# Altium footprint library Connector RF.PcbLib: 13 footprints
Each footprint in its own frame and in the unit in brackets; x right, y up, seen from the top. Pads: shape width x height; smd on the part's side, far side on the other; paste and mask are expansions set on the pad; w line width, h text height; cw(c..) or ccw(c..) is an arc to the next point about the centre after c.
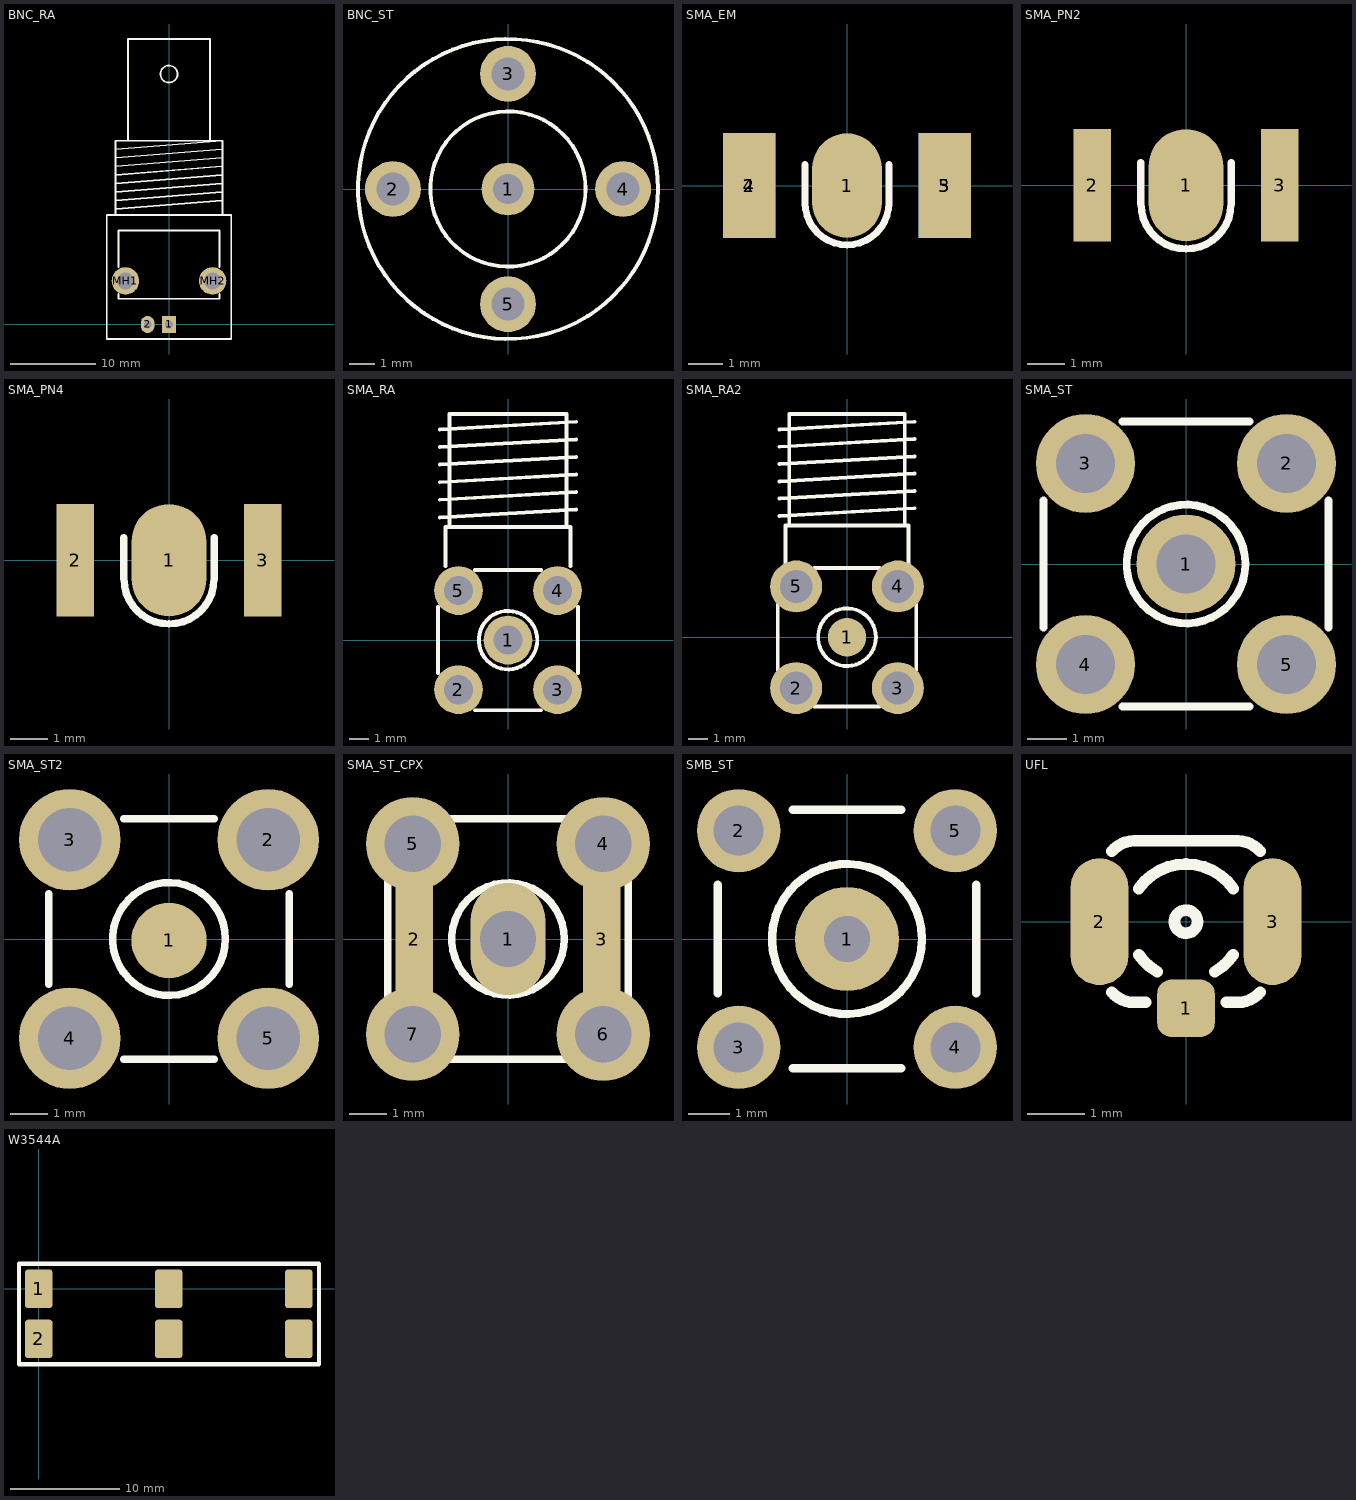
[diagram p0: the footprints below, top view; thin cyan lines are the x and y axes]

## BNC_RA [mm] "BNC connector, right angle PCB-mounted Elbow"
pads (4):
  rect 1.6x2 hole 0.9: 1(0,0)
  oval 1.6x2 hole 0.9: 2(-2.5,0)
  round 3.2 hole 2: MH1(-5.1,5.1) MH2(5.1,5.1)
Top Overlay:
  circle w0.2: c0,29.3 r1
  lines w0.2: -6.25,13.5 6.25,14.5 ; -6.25,14.5 6.25,15.5 ; -6.25,15.5 6.25,16.5 ; -6.25,16.5 6.25,17.5 ; -6.25,17.5 6.25,18.5 ; -6.25,18.5 6.25,19.5 ; -6.25,19.5 6.25,20.5 ; -6.25,20.5 6.25,21.5 ; -5.9,3.6 -5.9,3 5.9,3 5.9,3.6 ; -5.9,6.7 -5.9,11 5.9,11 5.9,6.7 ; -6.25,12.8 -7.3,12.8 -7.3,-1.7 7.3,-1.7 7.3,12.8 6.25,12.8 ; -6.25,12.8 -6.25,21.5 -4.8,21.5 ; -6.25,12.8 6.25,12.8 ; -4.8,21.5 4.8,21.5 ; -4.8,21.5 -4.8,33.4 4.8,33.4 4.8,21.5 ; 4.8,21.5 6.25,21.5 ; 6.25,12.8 6.25,21.5
3D body "User Library-bnc-1.SLDPRT": height 17.13, standoff -2.47, extent -7.2,-1.6 7.2,33.3

## BNC_ST [mil] "BNC Short Connector"
height 543.31
pads (5):
  round 80 hole 45: 1(0,0)
  round 85 hole 50: 2(-175.2,0) 3(0,175.2) 4(175.2,0) 5(0,-175.2)
Top Overlay:
  circle w5.91: c0,0 r228.35
  circle w5.91: c0,0 r118.11
3D body "My BNC Short.STEP": height 538.19, standoff -173.23, extent -218.11,-218.11 218.11,218.11

## SMA_EM [mm] "SMA-J-P-H-ST-EM1 edge mounting"
pads (5):
  oval 2x3 smd: 1(0,0)
  rect 1.5x3 smd: 2(-2.8,0) 3(2.8,0)
  rect 1.5x3 smd far side: 4(-2.8,0) 5(2.8,0)
Top Overlay:
  lines w0.2: -1.2,0.6 -1.2,-0.5 ccw(c0,-0.5) 1.2,-0.5 1.2,0.6
3D body "SMA-J-P-H-ST-EM1.STEP": height 3.51, standoff -2.84, extent -3.175,-1.1 3.175,12.23

## SMA_PN2 [mm] "SMA-J-P-H-ST-PN2, 1pin Wall mounting"
pads (3):
  oval 2x3 smd: 1(0,0)
  rect 1x3 smd: 2(-2.5,0) 3(2.5,0)
Top Overlay:
  lines w0.2: -1.2,0.6 -1.2,-0.5 ccw(c0,-0.5) 1.2,-0.5 1.2,0.6
3D body "SMA-J-P-H-ST-PN2.STEP": height 3.86, standoff -2.46, extent -7.935,-1 7.945,12.23

## SMA_PN4 [mm] "SMA-J-P-H-ST-PN4 1pin Wall mounting"
pads (3):
  oval 2x3 smd: 1(0,0)
  rect 1x3 smd: 2(-2.5,0) 3(2.5,0)
Top Overlay:
  lines w0.2: -1.2,0.6 -1.2,-0.5 ccw(c0,-0.5) 1.2,-0.5 1.2,0.6
3D body "SMA-J-P-H-ST-PN4.STEP": height 6.99, standoff -5.71, extent -6.35,-1.03 6.35,12.2

## SMA_RA [mm] "CONN, RF, COAX, SMA, RIGHT ANGLE THD"
pads (5):
  round 2.5 hole 1.5: 1(0,0) 2(-2.54,-2.54) 3(2.54,-2.54) 4(2.54,2.54) 5(-2.54,2.54)
Top Overlay:
  circle w0.2: c0,0 r1.5
  lines w0.2: -3.6,-1.7 -3.6,1.7 ; -3.5,6.3 3.5,6.7 ; -3.5,7.2 3.5,7.6 ; -3.5,8.1 3.5,8.5 ; -3.5,9 3.5,9.4 ; -3.5,9.9 3.5,10.3 ; -3.5,10.8 3.5,11.2 ; -3.2,3.8 -3.2,5.8 3.2,5.8 3.2,3.8 ; -3,5.8 -3,11.6 3,11.6 3,5.8 ; -1.7,-3.6 1.7,-3.6 ; -1.7,3.6 1.7,3.6 ; 3.6,-1.7 3.6,1.7
3D body "SMA-J-P-H-RA-TH1.STEP": height 10.26, standoff -3.84, extent -3.5,-3.54 3.5,11.56

## SMA_RA2 [mm] "CONN, RF, COAX, SMA, RIGHT ANGLE, SMA-J-P-XX-RA-MT1smt pin with 4 tht pin ground"
pads (5):
  round 2 smd: 1(0,0)
  round 2.7 hole 1.7: 2(-2.64,-2.64) 3(2.64,-2.64) 4(2.64,2.64) 5(-2.64,2.64)
Top Overlay:
  circle w0.2: c0,0 r1.5
  lines w0.2: -3.6,-1.7 -3.6,1.7 ; -3.5,6.3 3.5,6.7 ; -3.5,7.2 3.5,7.6 ; -3.5,8.1 3.5,8.5 ; -3.5,9 3.5,9.4 ; -3.5,9.9 3.5,10.3 ; -3.5,10.8 3.5,11.2 ; -3.2,3.8 -3.2,5.8 3.2,5.8 3.2,3.8 ; -3,5.8 -3,11.6 3,11.6 3,5.8 ; -1.7,-3.6 1.7,-3.6 ; -1.7,3.6 1.7,3.6 ; 3.6,-1.7 3.6,1.7
3D body "SMA-J-P-XX-RA-MT1.step": height 9.8, standoff -2.66, extent -3.5,-3.54 3.5,11.56

## SMA_ST [mm]
pads (5):
  round 2.5 hole 1.5: 1(0,0) 2(2.54,2.54) 3(-2.54,2.54) 4(-2.54,-2.54) 5(2.54,-2.54)
Top Overlay:
  circle w0.2: c0,0 r1.5
  lines w0.2: -3.6,-1.6 -3.6,1.6 ; -1.6,-3.6 1.6,-3.6 ; -1.6,3.6 1.6,3.6 ; 3.6,-1.6 3.6,1.6
3D body "SMA-J-P-H-ST-TH1.STEP": height 9.6, standoff -3.87, extent -3.5,-3.5 3.5,3.5

## SMA_ST2 [mm] "SMA-J-P-X-ST-MT1 straight smt pin with 4 tht pin ground"
pads (5):
  round 2 smd: 1(0,-0.04)
  round 2.7 hole 1.7: 2(2.64,2.64) 3(-2.64,2.64) 4(-2.64,-2.64) 5(2.64,-2.64)
Top Overlay:
  circle w0.2: c0,0 r1.5
  lines w0.2: -3.2,-1.2 -3.2,1.2 ; -1.2,-3.2 1.2,-3.2 ; -1.2,3.2 1.2,3.2 ; 3.2,-1.2 3.2,1.2
3D body "SMA-J-P-X-ST-MT1.step": height 7.97, standoff -2.58, extent -3.175,-3.2 3.175,3.15

## SMA_ST_CPX [mm] "SMA_ST COMPLEX THD SMT"
height 0.254
pads (7):
  oval 2x3 / inner round 2 / far side round 2.5 hole 1.5: 1(0,0)
  rect 1x3 smd: 2(-2.5,0) 3(2.5,0)
  round 2.5 hole 1.5: 4(2.54,2.54) 5(-2.54,2.54) 6(2.54,-2.54) 7(-2.54,-2.54)
Top Overlay:
  circle w0.2: c0,0 r1.5
  lines w0.2: -3.2,-3.2 3.2,-3.2 3.2,3.2 -3.2,3.2 -3.2,-3.2

## SMB_ST [mm] "High Frequency SMB Connector"
height 8
pads (5):
  round 2.5 hole 1.1: 1(0,0)
  round 2 hole 1.2: 2(-2.6,2.6) 3(-2.6,-2.6) 4(2.6,-2.6) 5(2.6,2.6)
Top Overlay:
  circle w0.2: c0,0 r1.8
  lines w0.2: -3.1,-1.3 -3.1,1.3 ; -1.3,-3.1 1.3,-3.1 ; -1.3,3.1 1.3,3.1 ; 3.1,-1.3 3.1,1.3
3D body "SMB.STEP": height 7.6, standoff -3, extent -2.985,-2.985 2.985,2.985

## UFL [mm] "CONN RF, COAX UP, U.FL-R-SMT-1 2.8x2.8mm"
pads (3):
  rrect50% 1x1 smd: 1(0,-1.5)
  oval 1x2.2 smd: 2(-1.5,0) 3(1.5,0)
Top Overlay:
  circle w0.2: c0,0 r0.2
  lines w0.2: -1.283,-1.222 ccw(c-0.9,-0.9) -0.9,-1.4 -0.7,-1.4 ; -1.283,1.221 cw(c-0.9,0.9) -0.9,1.4 -0.7,1.4 0.9,1.4 cw(c0.9,0.9) 1.283,1.221 ; -0.819,-0.573 ccw(c0,0) -0.5,-0.866 ; -0.819,0.573 cw(c0,0) 0.819,0.573 ; 0.5,-0.866 ccw(c0,0) 0.819,-0.573 ; 0.7,-1.4 0.9,-1.4 ccw(c0.9,-0.9) 1.283,-1.222
3D body "SW3dPS-U.FL-R-SMT-1.STEP": height 1.25, standoff -0.01, extent -1.5,-1.55 1.5,1.55

## W3544A [mm] "CONN RF, SMD, W3544A, 26x7.65x3mm"
pads (6):
  rrect20% 2.5x3.5 smd: 1(0,0) 2(0,-4.572) ""(11.874,-4.572) ""(11.874,0) ""(23.749,-4.572) ""(23.749,0)
Top Overlay:
  lines w0.4: -1.8,-6.9 25.6,-6.9 25.6,2.3 -1.8,2.3 -1.8,-6.9
3D body "w3544a_7-65_26_3.stp": height 3.05, standoff 0.05, extent -1.076,-6.111 24.824,1.539